# EAGLE library part W25Q128JVSIQ (library rp2040)
FLASH SPI - Dual/Quad I/O 128Mb (16M x 8) Non-Volatile Manufacturer: Winbond Elec MFR.Part: #W25Q128JVSIQ JLCPCB Part: #C97521 Package: SOIC-8_5.3x5.3x1.27P Description: FLASH SPI - Dual/Quad I/O 128Mb (16M x 8) Non-Volatile SOIC-8_208mil NOR FLASH ROHS Datasheet <https://datasheet.lcsc.com/lcsc/1811142111_Winbond-Elec-W25Q128JVSIQ_C97521.pdf>
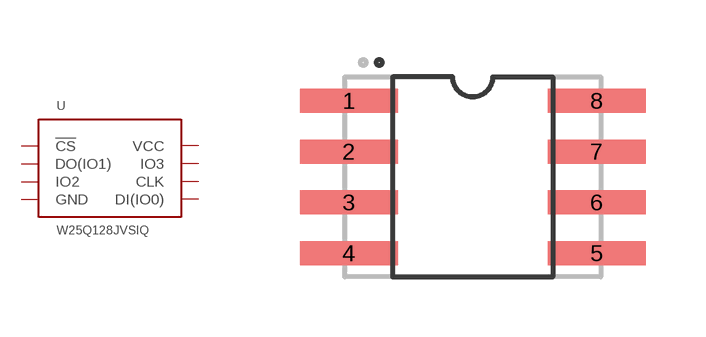
[diagram p2: symbol with the pads of SOIC8-208MIL; footprint SOIC8-208MIL]

Designator prefix -

## W25Q128JVSIQ  [SOIC8-208MIL]
1  !CS
2  DO(IO1)
3  IO2
4  GND
5  DI(IO0)
6  CLK
7  IO3
8  VCC

## Footprint SOIC8-208MIL (pad centres in mm)
SOIC-8 Pad size: 2.45 x 0.6 mm
smd 2.45 x 0.6: 1 -3.1,1.905; 2 -3.1,0.635; 3 -3.1,-0.635; 4 -3.1,-1.905; 5 3.1,-1.905; 6 3.1,-0.635; 7 3.1,0.635; 8 3.1,1.905